# Altium footprint library pulse-mag.PcbLib: 4 footprints
Each footprint in its own frame and in the unit in brackets; x right, y up, seen from the top. Pads: shape width x height; smd on the part's side, far side on the other; paste and mask are expansions set on the pad; w line width, h text height; cw(c..) or ccw(c..) is an arc to the next point about the centre after c.
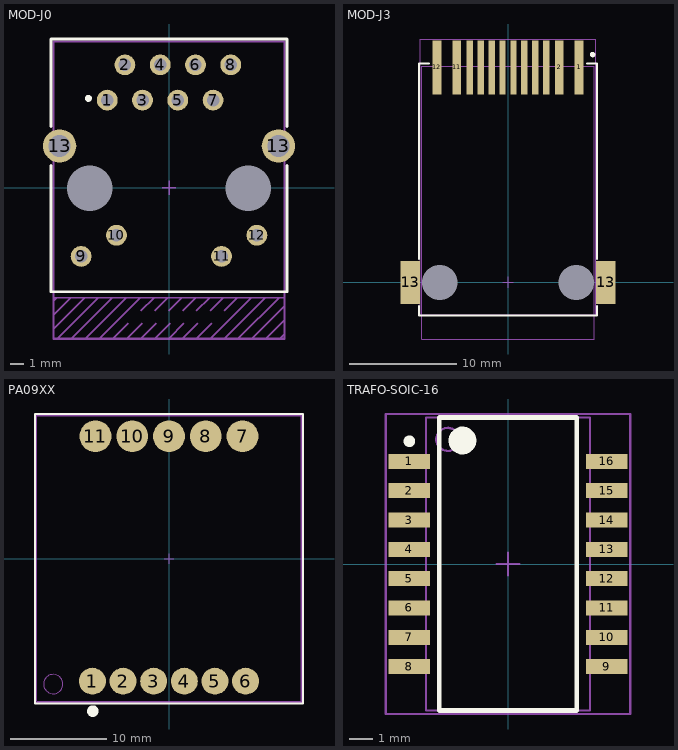
[diagram p0: the footprints below, top view; thin cyan lines are the x and y axes]

## MOD-J0 [mm] "Modular Jack, Right Angle, Fully Shielded, True SMT"
height 13.61
pads (16):
  round 0 hole 3.27 unplated: 0(-5.715,-0.05) 0(5.715,-0.05)
  round 1.5 hole 0.9 unplated: 1(-4.445,6.3) 2(-3.175,8.84) 3(-1.905,6.3) 4(-0.635,8.84) 5(0.635,6.3) 6(1.905,8.84) 7(3.175,6.3) 8(4.445,8.84) 9(-6.325,-4.95) 10(-3.785,-3.43) 11(3.785,-4.95) 12(6.325,-3.43)
  round 2.4 hole 1.6 unplated: 13(-7.875,3) 13(7.875,3)
Top Overlay:
  circle w0.25: c-5.8,6.425 r0.125
  lines w0.2: -8.5,1.6 -8.5,-7.5 8.5,-7.5 8.5,1.6 ; -8.5,4.4 -8.5,10.7 8.5,10.7 8.5,4.4
Mechanical 13:
  lines w0.1: -8.313,-9.163 -7.077,-7.928 ; -8.313,-8.163 -8.077,-7.928 ; -8.3,-10.15 -6.077,-7.928 ; -8.3,-7.93 8.3,-7.93 ; -8,-10.85 -5.078,-7.928 ; -7,-10.85 -4.078,-7.928 ; -6,-10.85 -3.078,-7.928 ; -5,-10.85 -2.077,-7.928 ; -4,-10.85 -2.925,-9.775 ; -3,-10.85 -1.925,-9.775 ; -2.025,-8.875 -1.077,-7.928 ; -2,-10.85 -0.925,-9.775 ; -1.025,-8.875 -0.077,-7.928 ; -1,-10.85 0.075,-9.775 ; -0.5,0 0.5,0 ; -0.025,-8.875 0.923,-7.928 ; 0,-10.85 1.075,-9.775 ; 0,-0.5 0,0.5 ; 0.975,-8.875 1.923,-7.928 ; 1,-10.85 2.075,-9.775 ; 1.975,-8.875 2.923,-7.928 ; 2,-10.85 3.075,-9.775 ; 2.975,-8.875 3.923,-7.928 ; 3,-10.85 5.923,-7.928 ; 3.975,-8.875 4.923,-7.928 ; 4,-10.85 6.923,-7.928 ; 5,-10.85 7.923,-7.928 ; 6,-10.85 8.3,-8.55 ; 7,-10.85 8.3,-9.55 ; 8,-10.85 8.288,-10.562 ; -8.3,-10.85 8.3,-10.85 8.3,10.5 -8.3,10.5 -8.3,-10.85
  text "NO TRACE ZONE" at -2.5,-9.6 h0.5
Mechanical 15:
  lines w0.1: -8.35,-10.9 8.35,-10.9 8.35,10.55 -8.35,10.55 -8.35,-10.9
  text ".Designator" at -2.55,-3.3 h1
3D body "User Library-RJ45-01-J0011D01BNL.STEP": height 13.97, standoff -3.54, extent -8.3,-10.85 8.3,10.497

## MOD-J3 [mm] "Modular Jack, Right Angle, Fully Shielded, True SMT"
height 13.61
pads (16):
  round 0 hole 3.27 unplated: 0(-6.35,0) 0(6.35,0)
  rect 0.8x5 smd: 1(6.61,20) 2(4.77,20) 11(-4.77,20) 12(-6.61,20)
  rect 0.6x5 smd: 3(3.57,20) 4(2.55,20) 5(1.53,20) 6(0.51,20) 7(-0.51,20) 8(-1.53,20) 9(-2.55,20) 10(-3.57,20)
  rect 1.8x4 smd: 13(-9.1,0) 13(9.1,0)
Top Overlay:
  circle w0.25: c7.875,21.2 r0.125
  lines w0.2: -8.3,-2.2 -8.3,-3.1 8.3,-3.1 8.3,-2.2 ; -8.3,2.2 -8.3,20.375 -7.35,20.375 ; 7.35,20.375 8.3,20.375 8.3,2.2
Mechanical 13:
  lines w0.1: -0.5,0 0.5,0 ; 0,-0.5 0,0.5 ; -8.05,-5.275 8.05,-5.275 8.05,20.125 -8.05,20.125 -8.05,-5.275
Mechanical 15:
  lines w0.1: -8.15,-3 8.15,-3 8.15,22.65 -8.15,22.65 -8.15,-3
  text ".Designator" at -2.55,7.55 h0.5
3D body "J3011G21DNLT.STEP": height 14.6, standoff -0.6, extent -9.5,-5.275 9.5,21.725

## PA09XX [mm] "PA09 Series Transformer"
height 10.1
pads (11):
  round 2.79 smd: 1(-7.938,-12.7) 2(-4.763,-12.7) 3(-1.587,-12.7) 4(1.587,-12.7) 5(4.763,-12.7) 6(7.938,-12.7)
  round 3.3 smd: 7(7.62,12.7) 8(3.81,12.7) 9(0,12.7) 10(-3.81,12.7) 11(-7.62,12.7)
Top Overlay:
  circle w0.6: c-7.9,-15.8 r0.3
  lines w0.2: -13.9,-15 -13.9,15 13.9,15 13.9,-15 -13.9,-15
Mechanical 13:
  lines w0.1: -0.5,0 0.5,0 ; 0,-0.5 0,0.5 ; -13.7,-14.8 -13.7,14.8 13.7,14.8 13.7,-14.8 -13.7,-14.8
Mechanical 15:
  circle w0.1: c-12,-13 r1
  lines w0.1: -13.8,-14.9 -13.8,14.9 13.8,14.9 13.8,-14.9 -13.8,-14.9
  text ".Designator" at -1.5,0 h0.5
3D body "Coilcraft-PL300-104L.STEP": height 11.95, standoff -0.15, extent -13.335,-14.73 13.335,14.73

## TRAFO-SOIC-16 [mm] "Ethernet Trafo SOIC 16"
height 5.97
pads (16):
  rect 1.8x0.65 smd: 1(-4.275,4.445) 2(-4.275,3.175) 3(-4.275,1.905) 4(-4.275,0.635) 5(-4.275,-0.635) 6(-4.275,-1.905) 7(-4.275,-3.175) 8(-4.275,-4.445) 9(4.275,-4.445) 10(4.275,-3.175) 11(4.275,-1.905) 12(4.275,-0.635) 13(4.275,0.635) 14(4.275,1.905) 15(4.275,3.175) 16(4.275,4.445)
Top Overlay:
  circle w0.6: c-1.975,5.35 r0.3
  circle w0.25: c-4.275,5.32 r0.125
  lines w0.2: -2.975,-6.35 2.975,-6.35 2.975,6.35 -2.975,6.35 -2.975,-6.35
Mechanical 13:
  lines w0.1: -0.5,0 0.5,0 ; 0,-0.5 0,0.5 ; -3.555,-6.35 3.555,-6.35 3.555,6.35 -3.555,6.35 -3.555,-6.35
Mechanical 15:
  circle w0.1: c-2.605,5.4 r0.5
  lines w0.1: -5.3,-6.5 5.3,-6.5 5.3,6.5 -5.3,6.5 -5.3,-6.5
  text ".Designator" at 0.175,-2.025 h0.5
3D body "SW3dPS-frecom ethernet.step": height 5.53, standoff -0.02, extent -4.441,-6.4 4.441,6.4